# Altium footprint library CRYSTAL_HC49S.PcbLib: 1 footprints
Each footprint in its own frame and in the unit in brackets; x right, y up, seen from the top. Pads: shape width x height; smd on the part's side, far side on the other; paste and mask are expansions set on the pad; w line width, h text height; cw(c..) or ccw(c..) is an arc to the next point about the centre after c.
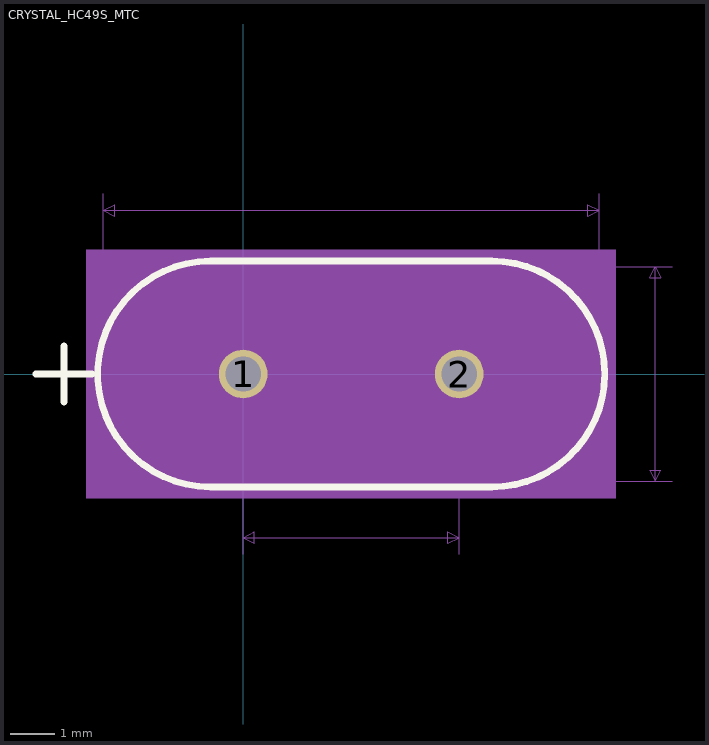
[diagram p0: the footprint, top view; thin cyan lines are the x and y axes]

## CRYSTAL_HC49S_MTC [mm]
pads (2):
  round 1.1 / inner round 1.245 / far side round 1.1 hole 0.8 mask+0: 1(0,0) 2(4.88,0)
Top Overlay:
  lines w0.152: -4.685,0 -3.415,0 ; -4.05,-0.635 -4.05,0.635 ; -0.735,-2.553 cw(c-0.735,0) -0.735,2.553 5.615,2.553 cw(c5.615,0) 8.168,0 cw(c5.615,0) 5.615,-2.553 -0.735,-2.553
Mechanical 5:
  region: 8.422,-2.807 -3.542,-2.807 -3.542,2.807 8.422,2.807
Mechanical 7:
  lines w0.025: -3.161,0 -3.161,4.077 ; 0,-4.077 0,0 ; 4.88,-4.077 4.88,0 ; 5.615,-2.426 9.692,-2.426 ; 5.615,2.426 9.692,2.426 ; 8.041,0 8.041,4.077 ; -3.161,3.696 8.041,3.696 ; -3.161,3.696 -2.907,3.823 -2.907,3.569 -3.161,3.696 ; 0,-3.696 4.88,-3.696 ; 0,-3.696 0.254,-3.569 0.254,-3.823 0,-3.696 ; 4.88,-3.696 4.626,-3.569 4.626,-3.823 4.88,-3.696 ; 8.041,3.696 7.787,3.823 7.787,3.569 8.041,3.696 ; 9.311,-2.426 9.311,2.426 ; 9.311,-2.426 9.184,-2.172 9.438,-2.172 9.311,-2.426 ; 9.311,2.426 9.184,2.172 9.438,2.172 9.311,2.426
  text "Default Pad Style: c124h74" at -5.815,-9.411 h1.27
  text "Alt 1 Pad Style: b152_229h76" at -6.45,-11.316 h1.27
  text "Alt 2 Pad Style: b229_152h76" at -6.45,-13.221 h1.27
  text "0.191in/4.851mm" at 9.819,-0.318 h0.64
  text "0.192126in/4.88mm" at -0.259,-4.839 h0.64
  text "0.441in/11.201mm" at -0.1,4.204 h0.64
Mechanical 13:
  lines w0: -0.735,-2.426 cw(c-0.735,0) -0.735,2.426 ; 5.615,-2.426 ccw(c5.615,0) 5.615,2.426
  lines w0.025: -4.685,0 -3.415,0 ; -4.05,-0.635 -4.05,0.635 ; -0.735,-2.426 5.615,-2.426 ; -0.735,2.426 5.615,2.426
Mechanical 15:
  region: 8.295,-2.68 -3.415,-2.68 -3.415,2.68 8.295,2.68
  lines w0.152: -3.415,-2.68 -3.415,2.68 8.295,2.68 8.295,-2.68 -3.415,-2.68
3D body "CRYSTAL_HC49S_MTC.step": height 3.99, standoff -3.99, extent -3.43,-2.667 8.256,2.669
3D body: height 0.25, standoff 0, extent 0,0 0.254,0.254